# Altium schematic symbol library usb_a_x2.Schlib: 1 symbol
Pins are listed as number, name and electrical type; pins without a type are passive.

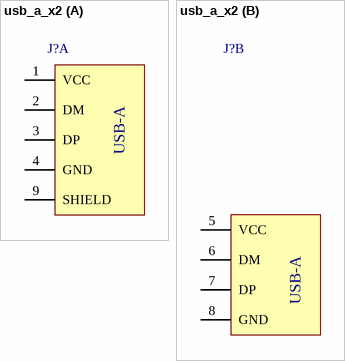
[diagram p0: symbol usb_a_x2]

## usb_a_x2
designator J?  (value not drawn)
USB type A jack, Double Decker
part A pins: 1 VCC, 2 DM, 3 DP, 4 GND, 9 SHIELD
part B pins: 5 VCC, 6 DM, 7 DP, 8 GND
part A text: USB-A
part B text: USB-A